# Altium schematic symbol library DCDC_LDO.SchLib: 9 symbols
Pins are listed as number, name and electrical type; pins without a type are passive.

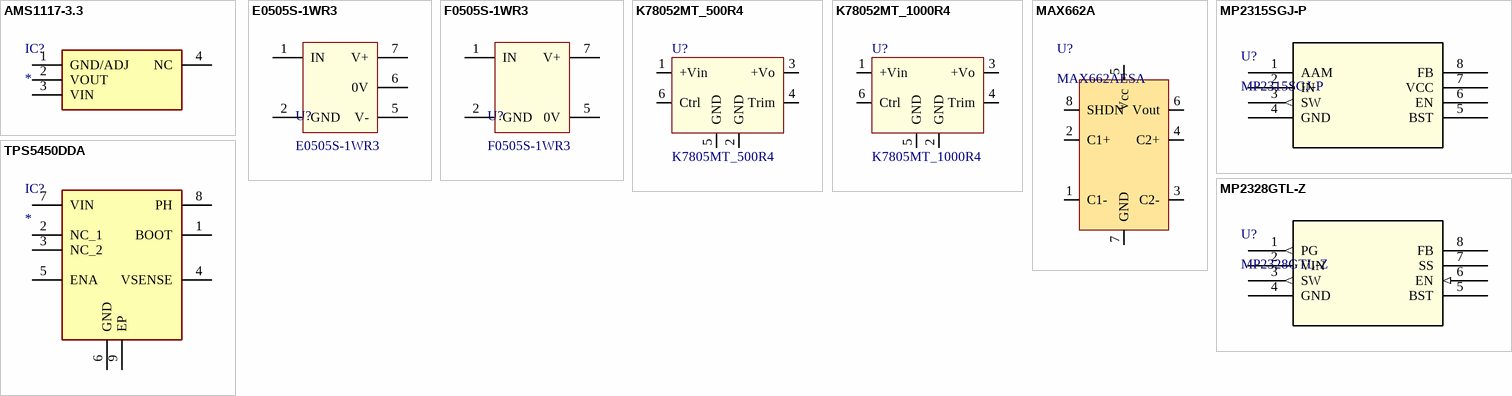
[diagram p0: symbols AMS1117-3.3 to TPS5450DDA]

## AMS1117-3.3
designator IC?
Integrated Circuit; Manufacturer_Name: Advanced; Manufacturer_Part_Number: AMS1117-3.3; Datasheet Link: https://datasheet.datasheetarchive.com/originals/distributors/Datasheets-28/DSA-550594.pdf; Height: 1.8mm
footprint SOT229P700X180-4N
pins: 1 GND/ADJ, 2 VOUT, 3 VIN, 4 NC

## E0505S-1WR3
designator U?
isolation DC/DC; Type: E0505S-1WR3
footprint E0505S-1WR3
pins: 1 IN, 2 GND, 5 V-, 6 0V, 7 V+

## F0505S-1WR3
designator U?
isolation DC/DC; Min-rated isolation voltage: Min-rated isolation voltage:3000V; Type: F0505S-1WR3
footprint F_S-1WR3
pins: 1 IN, 2 GND, 5 0V, 7 V+

## K78052MT_500R4
designator U?, comment K7805MT_500R4
footprint K7805MT_500R4
pins: 1 +Vin, 2 GND, 3 +Vo, 4 Trim, 5 GND, 6 Ctrl

## K78052MT_1000R4
designator U?, comment K7805MT_1000R4
footprint K7805MT_500R4
pins: 1 +Vin, 2 GND, 3 +Vo, 4 Trim, 5 GND, 6 Ctrl

## MAX662A
designator U?, comment MAX662AESA
+12V, 30mA Flash Memory Programming Supply; Type: MAX662AESA
footprint SOIC127P600X175-8N (SOIC, 8-Leads, Body 4.90x3.89mm, Pitch 1.27mm, IPC Medium Density)
pins: 1 C1-, 2 C1+, 3 C2-, 4 C2+, 5 Vcc, 6 Vout, 7 GND, 8 SHDN

## MP2315SGJ-P
designator U?
No Description Available; Mfr_Name: Monolithic Power Systems; Copyright: Copyright (C) 2023 Ultra Librarian. All rights reserved.; Manufacturer_Part_Number: MP2315SGJ-P; RefDes: RefDes; Type: DEV
footprint TSOT23-8_MNP
pins: 1 AAM, 2 IN (power), 3 SW (out), 4 GND (power), 5 BST (power), 6 EN, 7 VCC (power), 8 FB

## MP2328GTL-Z
designator U?
Wide 4.5V to 28V Operating Input Range                                    Wide 0.5V to 16V VOUT; Mfr_Name: Monolithic Power Systems; Copyright: Copyright (C) 2023 Ultra Librarian. All rights reserved.; Manufacturer_Part_Number: MP2328GTL-Z; RefDes: RefDes; Type: DEV; ComponentLink1Description: link; ComponentLink1URL: *
footprint SOT583_MNP
pins: 1 PG (out), 2 VIN (power), 3 SW (out), 4 GND (power), 5 BST (power), 6 EN (in), 7 SS, 8 FB

## TPS5450DDA
designator IC?
Integrated Circuit; Manufacturer_Name: Texas Instruments; Manufacturer_Part_Number: TPS5450DDA; Datasheet Link: http://www.ti.com/lit/ds/symlink/tps5450.pdf; Height: 1.7mm; Mouser Part Number: 595-TPS5450DDA; Mouser Price/Stock: https://www.mouser.co.uk/ProductDetail/Texas-Instruments/TPS5450DDA?qs=h%2FYsCRHtaqPow3uMxnjN5A%3D%3D; Arrow Part Number: TPS5450DDA; Arrow Price/Stock: https://www.arrow.com/en/products/tps5450dda/texas-instruments?region=nac
footprint SOIC127P600X170-9N
pins: 1 BOOT, 2 NC_1, 3 NC_2, 4 VSENSE, 5 ENA, 6 GND, 7 VIN, 8 PH, 9 EP